# EAGLE library part LM516X (library Public)
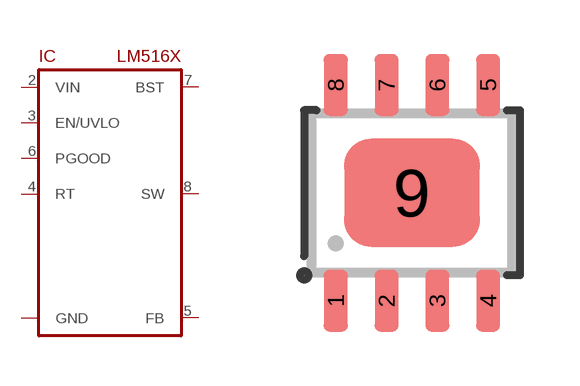
[diagram p191: symbol with the pads of SO8_POWERPAD; footprint SO8_POWERPAD]

Designator prefix IC

## LM516X  [SO8_POWERPAD]
1  GND
2  VIN
3  EN/UVLO
4  RT
5  FB
6  PGOOD
7  BST
8  SW
9  GND

## Footprint SO8_POWERPAD (pad centres in mm)
smd 0.6 x 1.55: 1 -1.905,-2.7; 2 -0.635,-2.7; 3 0.635,-2.7; 4 1.905,-2.7; 5 1.905,2.7; 6 0.635,2.7; 7 -0.635,2.7; 8 -1.905,2.7
smd 3.4 x 2.71: 9 0,0